# Altium schematic symbol library transformer.SchLib: 1 symbol
Pins are listed as number, name and electrical type; pins without a type are passive.

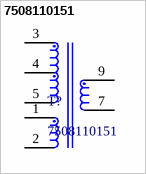
[diagram p0: symbol 7508110151]

## 7508110151
designator T?
Supplier 1: Digi-Key; Supplier Part Number 1: 1297-1122-ND
footprint 7508110151 (Wurth 7508110151)
pins: 1, 2, 3, 4, 5, 7, 9